# EAGLE library part MAGJACK (library DECADE-libraries)
RJ-45 with LEDs
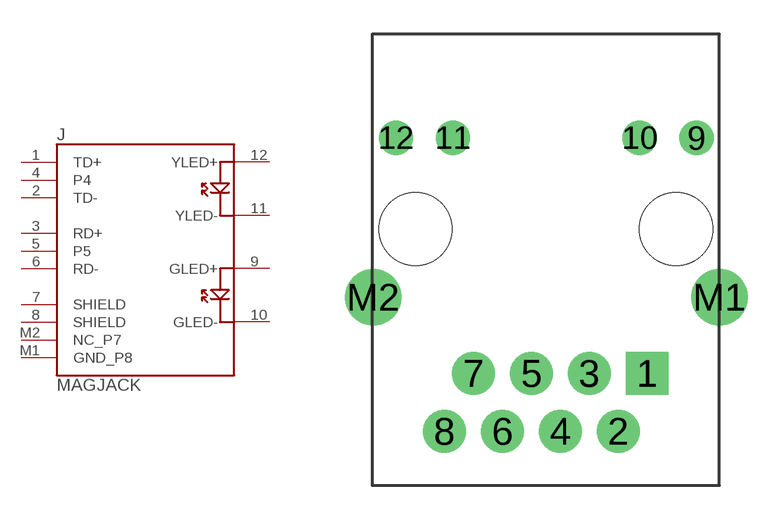
[diagram p66: symbol with the pads of MAGJACK; footprint MAGJACK]

Designator prefix J

## MAGJACK  [MAGJACK]
1  TD+
2  TD-
3  RD+
4  P4
5  P5
6  RD-
7  SHIELD
8  SHIELD
9  GLED+
10  GLED-
11  YLED-
12  YLED+
M1  GND_P8
M2  NC_P7

## Footprint MAGJACK (pad centres in mm)
drill 1 pad 1.88 square: 1 4.45,4.885
drill 1 pad 1.88: 2 3.18,2.345; 3 1.91,4.885; 4 0.64,2.345; 5 -0.63,4.885; 6 -1.9,2.345; 7 -3.17,4.885; 8 -4.44,2.345
drill 1 pad 1.27: 9 6.625,15.23; 10 4.125,15.23; 11 -4.075,15.23; 12 -6.575,15.23
drill 1.65 pad 2.184: M1 7.625,8.23; M2 -7.575,8.23
hole 3.2 at 5.72,11.235
hole 3.2 at -5.71,11.235